# Altium footprint library regulator.PcbLib: 1 footprints
Each footprint in its own frame and in the unit in brackets; x right, y up, seen from the top. Pads: shape width x height; smd on the part's side, far side on the other; paste and mask are expansions set on the pad; w line width, h text height; cw(c..) or ccw(c..) is an arc to the next point about the centre after c.
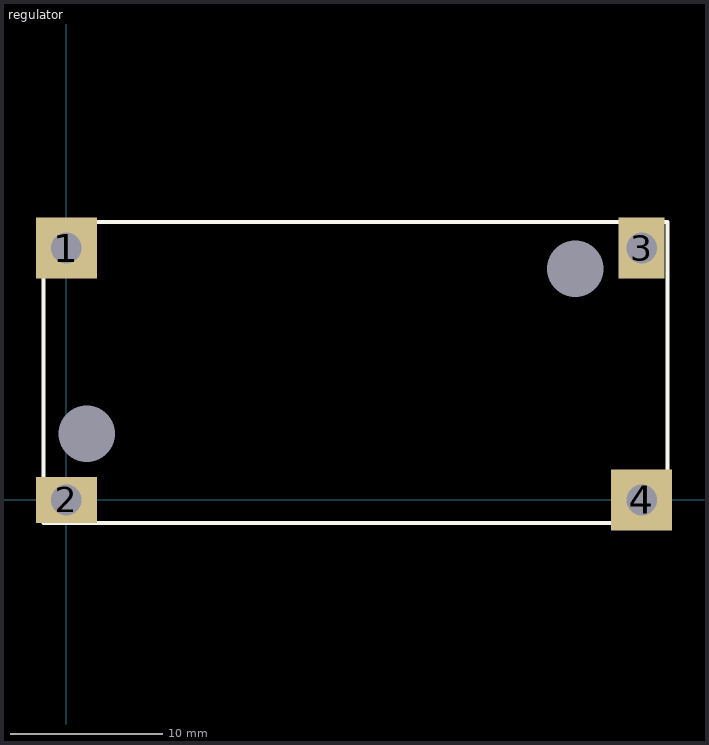
[diagram p0: the footprint, top view; thin cyan lines are the x and y axes]

## regulator [mm] "LM2596 step-down regulator"
height 15
pads (6):
  round 0 hole 3.7: 0(1.35,4.35) 0(33.32,15.15)
  rect 4x4 hole 2: 1(0,16.5) 4(37.67,0)
  rect 4x3 hole 2: 2(0,0)
  rect 3x4 hole 2: 3(37.67,16.5)
Top Overlay:
  lines w0.254: -1.5,-1.5 39.37,-1.5 39.37,18.2 -1.5,18.2 -1.5,-1.5
3D body "Step Down voltage regulator LM2596.stp": height 12.7, standoff -1, extent -2.6,-1.875 40.4,19.325